# EAGLE library part ISO6721BQDRQ1 (library ISO6721BQDRQ1)
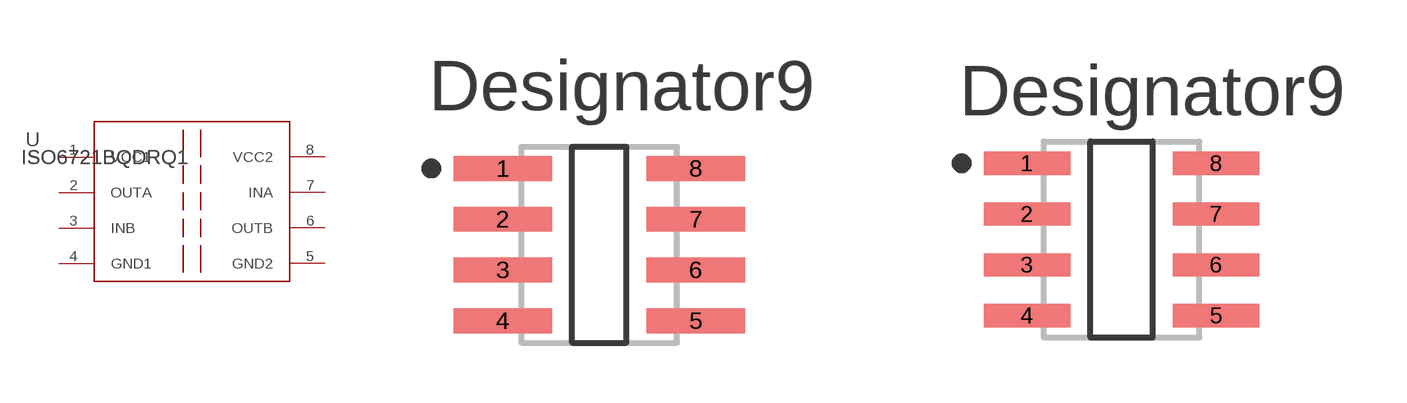
[diagram p0: symbol with the pads of D0008A-IPC_A; footprints D0008A-IPC_A, D0008A-IPC_B]

Designator prefix U

## ISO6721BQDRQ1D0008A-IPC_A (Copyright: Copyright (C) 2024 Ultra Librarian. All rights reserved.; Manufacturer_Part_Number: ISO6721BQDRQ1; Mfr_Name: Texas Instruments; RefDes: RefDes; TYPE: TYPE)  [D0008A-IPC_A]
1  VCC1  pwr
2  OUTA  out
3  INB  in
4  GND1  pwr
5  GND2  pwr
6  OUTB  out
7  INA  in
8  VCC2  pwr

## ISO6721BQDRQ1D0008A-IPC_B (Copyright: Copyright (C) 2024 Ultra Librarian. All rights reserved.; Manufacturer_Part_Number: ISO6721BQDRQ1; Mfr_Name: Texas Instruments; RefDes: RefDes; TYPE: TYPE)  [D0008A-IPC_B]
Pads as for D0008A-IPC_A

## ISO6721BQDRQ1D0008A-IPC_C (Copyright: Copyright (C) 2024 Ultra Librarian. All rights reserved.; Manufacturer_Part_Number: ISO6721BQDRQ1; Mfr_Name: Texas Instruments; RefDes: RefDes; TYPE: TYPE)  [D0008A-IPC_C]
Pads as for D0008A-IPC_A

## ISO6721BQDRQ1D0008A-MFG (Copyright: Copyright (C) 2024 Ultra Librarian. All rights reserved.; Manufacturer_Part_Number: ISO6721BQDRQ1; Mfr_Name: Texas Instruments; RefDes: RefDes; TYPE: TYPE)  [D0008A-MFG]
Pads as for D0008A-IPC_A

## Footprint D0008A-IPC_A (pad centres in mm)
smd 2.469 x 0.622: 1 -2.414,1.905; 2 -2.414,0.635; 3 -2.414,-0.635; 4 -2.414,-1.905; 5 2.414,-1.905; 6 2.414,-0.635; 7 2.414,0.635; 8 2.414,1.905

## Footprint D0008A-IPC_B (pad centres in mm)
smd 2.169 x 0.582: 1 -2.364,1.905; 2 -2.364,0.635; 3 -2.364,-0.635; 4 -2.364,-1.905; 5 2.364,-1.905; 6 2.364,-0.635; 7 2.364,0.635; 8 2.364,1.905

## Footprint D0008A-IPC_C (pad centres in mm)
smd 1.869 x 0.542: 1 -2.314,1.905; 2 -2.314,0.635; 3 -2.314,-0.635; 4 -2.314,-1.905; 5 2.314,-1.905; 6 2.314,-0.635; 7 2.314,0.635; 8 2.314,1.905

## Footprint D0008A-MFG (pad centres in mm)
smd 1.55 x 0.6: 1 -2.7,1.905; 2 -2.7,0.635; 3 -2.7,-0.635; 4 -2.7,-1.905; 5 2.7,-1.905; 6 2.7,-0.635; 7 2.7,0.635; 8 2.7,1.905